# Altium footprint library others.PcbLib: 82 footprints (part 1 of 6)
Each footprint in its own frame and in the unit in brackets; x right, y up, seen from the top. Pads: shape width x height; smd on the part's side, far side on the other; paste and mask are expansions set on the pad; w line width, h text height; cw(c..) or ccw(c..) is an arc to the next point about the centre after c.
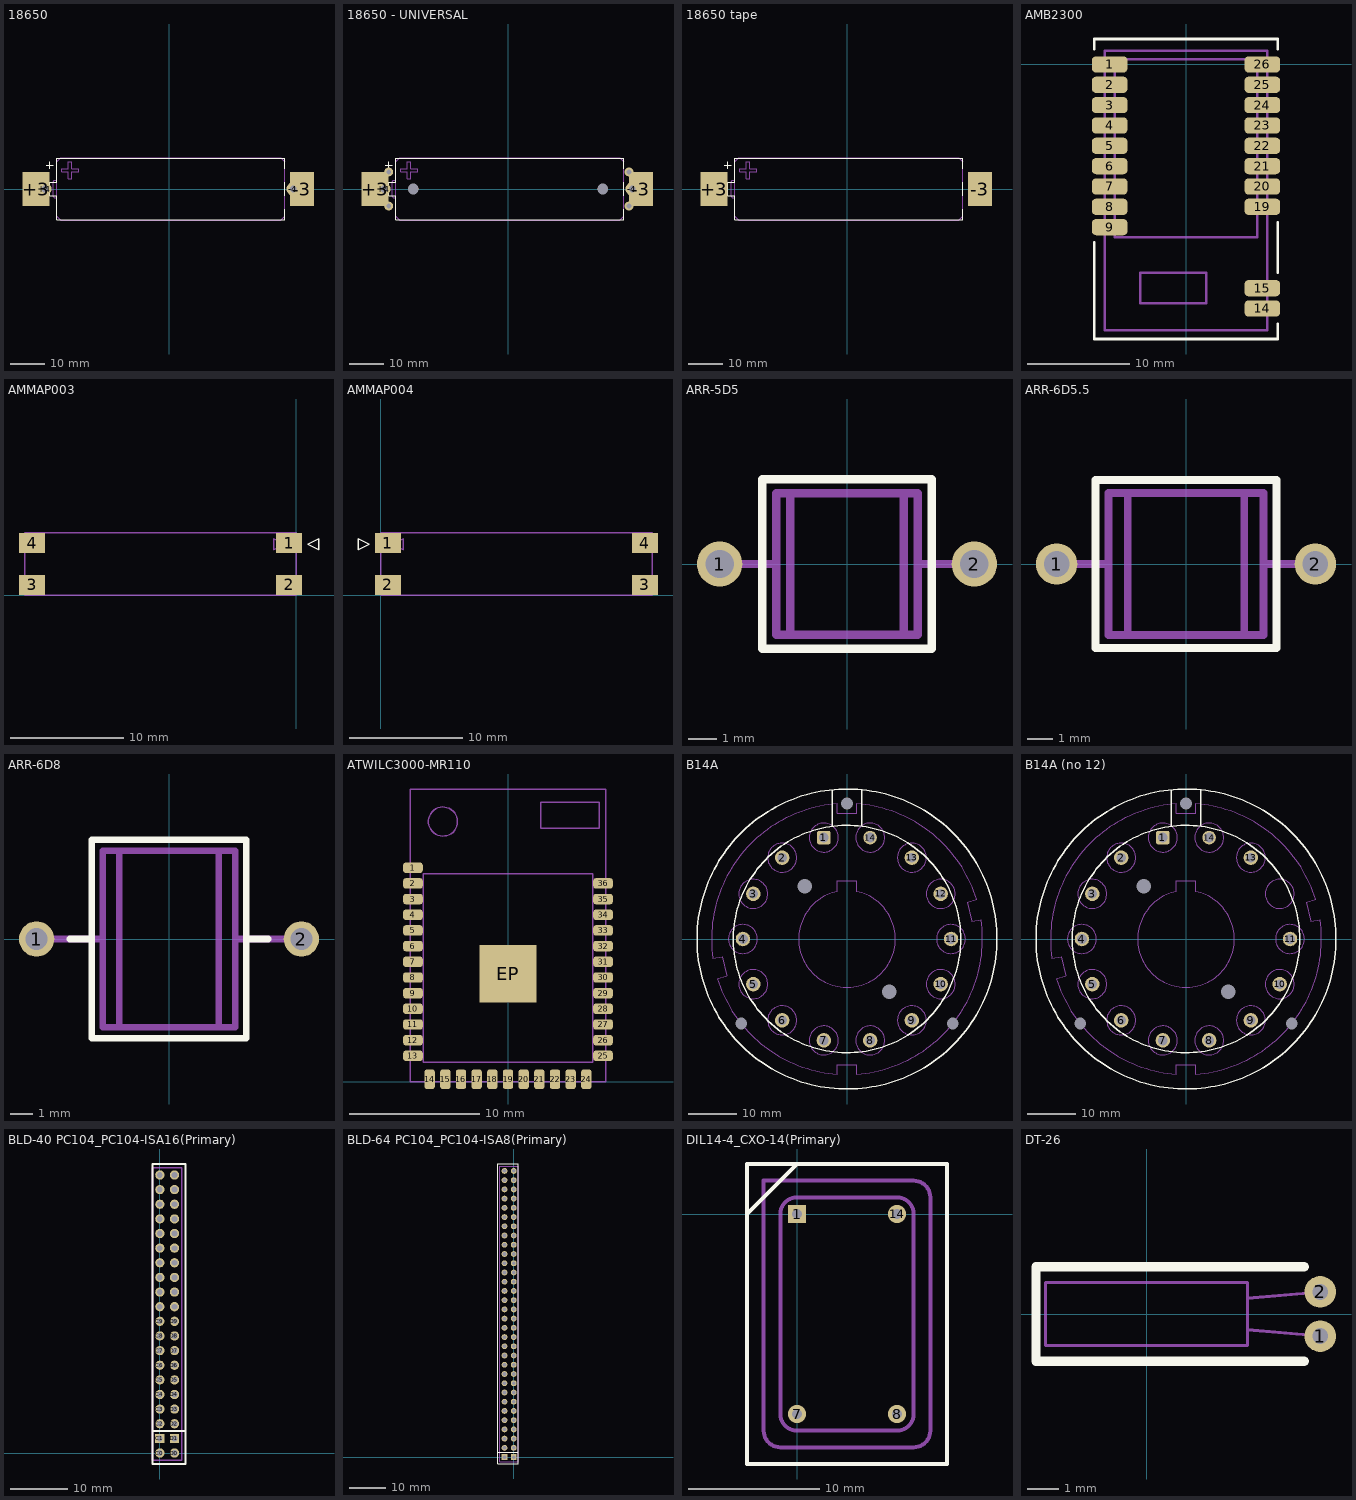
[diagram p0: the footprints below, top view; thin cyan lines are the x and y axes]

## 18650 [mm]
height 18.4
pads (4):
  rect 8x10 smd: +3(-39,0)
  round 4 hole 2: +4(-36.45,0) -4(36.45,0)
  rect 7x10 smd: -3(39,0)
Top Overlay:
  lines w0.3: -36,7 -34,7 ; -35,6 -35,8 ; 34,-6 34,-9 -33,-9 -33,-2 -35,-2 -35,2 -33,2 -33,9 34,9 34,6 ; 34,-2 34,2
Mechanical 1:
  lines w0.3: -33,-2.5 -33.6,-2.5 -34,-2.1 -34,2.1 -33.6,2.5 -33,2.5 ; -33,-8 -31.8,-9.2 32.8,-9.2 34,-8 34,8 32.8,9.2 -31.8,9.2 -33,8 -33,-8 ; -31.5,5 -29.5,5 -29.5,3 -28.5,3 -28.5,5 -26.5,5 -26.5,6 -28.5,6 -28.5,8 -29.5,8 -29.5,6 -31.5,6 -31.5,5
3D body: height 18.4, standoff 0, extent -33,-9.2 33.5,9.2
3D body: height 17.39, standoff 1, extent 33,-8.198 34,8.198
3D body: height 11.7, standoff 6.7, extent -34,-2.499 -33,2.499

## 18650 - UNIVERSAL [mm]
height 18.4
pads (10):
  round 2.6 hole 1.4: +1(-35,5) +2(-35,-5) -1(35.5,5) -2(35.5,-5)
  rect 8x10 smd: +3(-39,0)
  round 4 hole 2: +4(-36.45,0) -4(36.45,0)
  rect 7x10 smd: -3(39,0)
  round 3 hole 3.2 unplated mask+0.3: MNT+(-27.8,0) MNT-(27.8,0)
Top Overlay:
  lines w0.3: -36,7 -34,7 ; -35,6 -35,8 ; 34,-6 34,-9 -33,-9 -33,-2 -35,-2 -35,2 -33,2 -33,9 34,9 34,6 ; 34,-2 34,2
Mechanical 1:
  lines w0.3: -33,-2.5 -33.6,-2.5 -34,-2.1 -34,2.1 -33.6,2.5 -33,2.5 ; -33,-8 -31.8,-9.2 32.8,-9.2 34,-8 34,8 32.8,9.2 -31.8,9.2 -33,8 -33,-8 ; -31.5,5 -29.5,5 -29.5,3 -28.5,3 -28.5,5 -26.5,5 -26.5,6 -28.5,6 -28.5,8 -29.5,8 -29.5,6 -31.5,6 -31.5,5
3D body: height 18.4, standoff 0, extent -33,-9.2 33.5,9.2
3D body: height 17.39, standoff 1, extent 33,-8.198 34,8.198
3D body: height 11.7, standoff 6.7, extent -34,-2.499 -33,2.499

## 18650 tape [mm]
height 18.4
pads (2):
  rect 8x10 smd: +3(-39,0)
  rect 7x10 smd: -3(39,0)
Top Overlay:
  lines w0.3: -36,7 -34,7 ; -35,6 -35,8 ; 34,-6 34,-9 -33,-9 -33,-2 -35,-2 -35,2 -33,2 -33,9 34,9 34,6 ; 34,-2 34,2
Mechanical 1:
  lines w0.3: -33,-2.5 -33.6,-2.5 -34,-2.1 -34,2.1 -33.6,2.5 -33,2.5 ; -33,-8 -31.8,-9.2 32.8,-9.2 34,-8 34,8 32.8,9.2 -31.8,9.2 -33,8 -33,-8 ; -31.5,5 -29.5,5 -29.5,3 -28.5,3 -28.5,5 -26.5,5 -26.5,6 -28.5,6 -28.5,8 -29.5,8 -29.5,6 -31.5,6 -31.5,5
3D body: height 18.4, standoff 0, extent -33,-9.2 33.5,9.2
3D body: height 17.39, standoff 1, extent 33,-8.198 34,8.198
3D body: height 11.7, standoff 6.7, extent -34,-2.499 -33,2.499

## AMB2300 [mm]
pads (19):
  rrect50% 3.5x1.6 smd: 1(-7.5,0) 2(-7.5,-2) 3(-7.5,-4) 4(-7.5,-6) 5(-7.5,-8) 6(-7.5,-10) 7(-7.5,-12) 8(-7.5,-14) 9(-7.5,-16) 14(7.5,-24) 15(7.5,-22) 19(7.5,-14) 20(7.5,-12) 21(7.5,-10) 22(7.5,-8) 23(7.5,-6) 24(7.5,-4) 25(7.5,-2) 26(7.5,0)
Top Overlay:
  lines w0.25: -9,-17.5 -9,-27 9,-27 9,-25.5 ; -9,1.5 -9,2.5 9,2.5 9,1.5 ; 9,-20.5 9,-15.5
Mechanical 1:
  lines w0.25: -8,-16.5 -7.5,-16.5 -7.5,-15.5 -8,-15.5 ; -8,-14.5 -7.5,-14.5 -7.5,-13.5 -8,-13.5 ; -8,-12.5 -7.5,-12.5 -7.5,-11.5 -8,-11.5 ; -8,-10.5 -7.5,-10.5 -7.5,-9.5 -8,-9.5 ; -8,-8.5 -7.5,-8.5 -7.5,-7.5 -8,-7.5 ; -8,-6.5 -7.5,-6.5 -7.5,-5.5 -8,-5.5 ; -8,-4.5 -7.5,-4.5 -7.5,-3.5 -8,-3.5 ; -8,-2.5 -7.5,-2.5 -7.5,-1.5 -8,-1.5 ; -8,-0.5 -7.5,-0.5 -7.5,0.5 -8,0.5 ; 8,-24.5 6,-24.5 6,-23.5 8,-23.5 ; 8,-22.5 6,-22.5 6,-21.5 8,-21.5 ; 8,-14.5 7.5,-14.5 7.5,-13.5 8,-13.5 ; 8,-12.5 7.5,-12.5 7.5,-11.5 8,-11.5 ; 8,-10.5 7.5,-10.5 7.5,-9.5 8,-9.5 ; 8,-8.5 7.5,-8.5 7.5,-7.5 8,-7.5 ; 8,-6.5 7.5,-6.5 7.5,-5.5 8,-5.5 ; 8,-4.5 7.5,-4.5 7.5,-3.5 8,-3.5 ; 8,-2.5 7.5,-2.5 7.5,-1.5 8,-1.5 ; 8,-0.5 7.5,-0.5 7.5,0.5 8,0.5 ; -8,-26.15 8,-26.15 8,1.35 -8,1.35 -8,-26.15 ; -7,-17 7,-17 7,0.5 -7,0.5 -7,-17 ; -4.5,-23.5 2,-23.5 2,-20.5 -4.5,-20.5 -4.5,-23.5

## AMMAP003 [mm] "GSM antenna"
height 4.4
pads (4):
  rect 2.3x1.8 smd: 1(-0.65,4.6) 2(-0.65,0.9) 3(-23.35,0.9) 4(-23.35,4.6)
Top Overlay:
  lines w0.127: 1,4.5 2,5 2,4 1,4.5
Mechanical 1:
  lines w0.1: -24,0 0,0 0,5.5 -24,5.5 -24,0 ; -2,4 -1,4.5 -2,5 -2,4
Mechanical 5:
  lines w0.127: -24,0 -24,5.5 0,5.5 0,0 -24,0 ; -2,4 -2,5 -1,4.5 -2,4
  text ".Designator" at -14.75,2.75 h1.5
Mechanical 6:
  lines w0.127: -24,0 0,0 0,5.5 -24,5.5 -24,0 ; -2,4 -1,4.5 -2,5 -2,4
  text ".Comment" at -14,2 h1.5
3D body: height 4.4, standoff 0.1, extent -24,0 0,5.5

## AMMAP004 [mm] "GSM antenna"
height 4.4
pads (4):
  rect 2.3x1.8 smd: 1(0.65,4.6) 2(0.65,0.9) 3(23.35,0.9) 4(23.35,4.6)
Top Overlay:
  lines w0.127: -2,4 -2,5 -1,4.5 -2,4
Mechanical 1:
  lines w0.1: 0,0 0,5.5 24,5.5 24,0 0,0 ; 1,4.5 2,4 2,5 1,4.5
Mechanical 5:
  lines w0.127: 0,0 24,0 24,5.5 0,5.5 0,0 ; 1,4.5 2,5 2,4 1,4.5
  text ".Designator" at 9.5,2 h1.5
Mechanical 6:
  lines w0.127: 0,0 0,5.5 24,5.5 24,0 0,0 ; 1,4.5 2,4 2,5 1,4.5
  text ".Comment" at 10,3 h1.5
3D body: height 4.4, standoff 0.1, extent 0,0 24,5.5

## ARR-5D5 [mm]
pads (2):
  round 1.6 hole 1: 1(-4.5,0) 2(4.5,0)
Top Overlay:
  lines w0.3: -3,-3 3,-3 3,3 -3,3 -3,-3
Mechanical 1:
  lines w0.3: -4.5,0 -2.5,0 ; -2,-2.5 -2,2.5 ; 2,-2.5 2,2.5 ; 2.5,0 4.5,0 ; -2.5,-2.5 2.5,-2.5 2.5,2.5 -2.5,2.5 -2.5,-2.5
3D body: height 5.2, standoff 0.2, extent -2.5,-2.499 2.5,2.499

## ARR-6D5.5 [mm]
pads (2):
  round 1.6 hole 1: 1(-5,0) 2(5,0)
Top Overlay:
  lines w0.3: -3.5,-3.25 3.5,-3.25 3.5,3.25 -3.5,3.25 -3.5,-3.25
Mechanical 1:
  lines w0.3: -5,0 -3,0 ; -2.25,-2.75 -2.25,2.75 ; 2.25,-2.75 2.25,2.75 ; 3,0 5,0 ; -3,-2.75 3,-2.75 3,2.75 -3,2.75 -3,-2.75
3D body: height 5.75, standoff 0.25, extent -3,-2.75 3,2.748

## ARR-6D8 [mm]
pads (2):
  round 1.6 hole 1: 1(-6,0) 2(6,0)
Top Overlay:
  lines w0.3: -4.5,0 -3.5,0 ; 3.5,0 4.5,0 ; -3.5,-4.5 3.5,-4.5 3.5,4.5 -3.5,4.5 -3.5,-4.5
Mechanical 1:
  lines w0.3: -6,0 -3,0 ; -2.25,-4 -2.25,4 ; 2.25,-4 2.25,4 ; 3,0 6,0 ; -3,-4 3,-4 3,4 -3,4 -3,-4
3D body: height 8.2, standoff 0.2, extent -3,-4 3,3.998

## ATWILC3000-MR110 [mm]
height 2.1
pads (37):
  rrect50% 1.5x0.8 smd: 1(-7.3,16.448) 2(-7.3,15.244) 3(-7.3,14.04) 4(-7.3,12.836) 5(-7.3,11.632) 6(-7.3,10.428) 7(-7.3,9.224) 8(-7.3,8.02) 9(-7.3,6.816) 10(-7.3,5.612) 11(-7.3,4.408) 12(-7.3,3.204) 13(-7.3,2) 25(7.3,2) 26(7.3,3.204) 27(7.3,4.408) 28(7.3,5.612) 29(7.3,6.816) 30(7.3,8.02) 31(7.3,9.224) 32(7.3,10.428) 33(7.3,11.632) 34(7.3,12.836) 35(7.3,14.04) 36(7.3,15.244)
  rrect50% 0.8x1.5 smd: 14(-6.02,0.2) 15(-4.816,0.2) 16(-3.612,0.2) 17(-2.408,0.2) 18(-1.204,0.2) 19(0,0.2) 20(1.204,0.2) 21(2.408,0.2) 22(3.612,0.2) 23(4.816,0.2) 24(6.02,0.2)
  rect 4.4x4.4 smd: EP(0,8.3)
Mechanical 1:
  circle w0.1: c-5,20 r1.118
  lines w0.1: -7.5,0 7.5,0 7.5,22.5 -7.5,22.5 -7.5,0 ; -6.5,1.5 6.5,1.5 6.5,16 -6.5,16 -6.5,1.5 ; 2.5,19.5 7,19.5 7,21.5 2.5,21.5 2.5,19.5
3D body: height 0.8, standoff 0.1, extent -7.5,0 7.5,22.5
3D body: height 2.1, standoff 0.7, extent -6.5,1.5 6.5,16
3D body: height 2.1, standoff 0.7, extent 2.5,19.5 7,21.5
3D body: height 1.8, standoff 0.7, extent -5.999,19 -4,21

## B14A [mm]
height 29
pads (19):
  rrect30% 2.8x2.8 hole 2: 1(-4.784,20.961)
  round 3 hole 2: 2(-13.405,16.809) 3(-19.371,9.329) 4(-21.5,0) 5(-19.371,-9.329) 6(-13.405,-16.809) 7(-4.784,-20.961) 8(4.784,-20.961) 9(13.405,-16.809) 10(19.371,-9.329) 11(21.5,0) 12(19.371,9.329) 13(13.405,16.809)
  round 2.8 hole 2: 14(4.784,20.961)
  round 0 hole 2.4 unplated mask+2.5: S1(0,28) S6(-21.892,-17.457) S10(21.892,-17.457)
  round 0 hole 3 unplated mask+3: S2(-8.729,10.946) S9(8.729,-10.946)
Top Overlay:
  circle w0.3: c0,0 r23.5
  circle w0.3: c0,0 r31
  lines w0.3: -3,23.4 -3,30.8 ; 3,23.4 3,30.7
Mechanical 1:
  circle w0.1: c-19.371,-9.329 r3
  circle w0.1: c-13.405,-16.809 r3
  circle w0.1: c-4.784,-20.961 r3
  circle w0.1: c4.784,-20.961 r3
  circle w0.1: c13.405,-16.809 r3
  circle w0.1: c19.371,-9.329 r3
  circle w0.1: c21.5,0 r3
  circle w0.1: c19.371,9.329 r3
  circle w0.1: c13.405,16.809 r3
  circle w0.1: c4.784,20.961 r3
  circle w0.1: c-4.784,20.961 r3
  circle w0.1: c-13.405,16.809 r3
  circle w0.1: c-19.371,9.329 r3
  circle w0.1: c-21.5,0 r3
  lines w0.1: -26.775,-8.192 -24.9,-7.6 -25.8,-3.7 -27.713,-4.002 cw(c0,0) -2,27.928 -2,26 2,26 2,27.929 cw(c0,0) 26.775,8.192 ; -26.775,-8.192 ccw(c0,0) -1.995,-27.929 ; -2,-27.929 -2,-26 2,-26 2,-27.929 ccw(c0,0) 27.713,4.002 25.8,3.7 24.9,7.6 26.775,8.192 ; -2,9.806 -2,12 2,12 2,9.806 ; -1.998,9.798 ccw(c0,0) 1.998,9.798
3D body: height 14, standoff -2.5, extent -21.7,-0.7 -21.3,0.7
3D body: height 14, standoff -2.5, extent 21.3,-0.7 21.7,0.7
3D body: height 14, standoff -2.5, extent 18.887,8.611 19.855,10.046
3D body: height 14, standoff -2.5, extent -19.855,-10.046 -18.887,-8.611
3D body: height 14, standoff -2.5, extent 18.887,-10.046 19.855,-8.611
3D body: height 14, standoff -2.5, extent -19.855,8.611 -18.887,10.046
3D body: height 14, standoff -2.5, extent -5.511,20.61 -4.057,21.312
3D body: height 14, standoff -2.5, extent 4.057,-21.312 5.511,-20.61
3D body: height 14, standoff -2.5, extent 12.733,-17.402 14.077,-16.217
3D body: height 14, standoff -2.5, extent -14.077,16.217 -12.733,17.402
3D body: height 14, standoff -2.5, extent -5.511,-21.312 -4.057,-20.61
3D body: height 14, standoff -2.5, extent 4.057,20.61 5.511,21.312
3D body: height 14, standoff -2.5, extent 12.733,16.217 14.077,17.402
3D body: height 14, standoff -2.5, extent -14.077,-17.402 -12.733,-16.217
3D body: height 14, standoff 0.1, extent -26.512,-26.512 26.512,26.512
3D body: height 28.5, standoff 13.5, extent -28.002,-28.001 28.012,28.001

## B14A (no 12) [mm]
height 29
pads (18):
  rrect30% 2.8x2.8 hole 2: 1(-4.784,20.961)
  round 3 hole 2: 2(-13.405,16.809) 3(-19.371,9.329) 4(-21.5,0) 5(-19.371,-9.329) 6(-13.405,-16.809) 7(-4.784,-20.961) 8(4.784,-20.961) 9(13.405,-16.809) 10(19.371,-9.329) 11(21.5,0) 13(13.405,16.809)
  round 2.8 hole 2: 14(4.784,20.961)
  round 0 hole 2.4 unplated mask+2.5: S1(0,28) S6(-21.892,-17.457) S10(21.892,-17.457)
  round 0 hole 3 unplated mask+3: S2(-8.729,10.946) S9(8.729,-10.946)
Top Overlay:
  circle w0.3: c0,0 r23.5
  circle w0.3: c0,0 r31
  lines w0.3: -3,23.4 -3,30.8 ; 3,23.4 3,30.7
Mechanical 1:
  circle w0.1: c-19.371,-9.329 r3
  circle w0.1: c-13.405,-16.809 r3
  circle w0.1: c-4.784,-20.961 r3
  circle w0.1: c4.784,-20.961 r3
  circle w0.1: c13.405,-16.809 r3
  circle w0.1: c19.371,-9.329 r3
  circle w0.1: c21.5,0 r3
  circle w0.1: c19.371,9.329 r3
  circle w0.1: c13.405,16.809 r3
  circle w0.1: c4.784,20.961 r3
  circle w0.1: c-4.784,20.961 r3
  circle w0.1: c-13.405,16.809 r3
  circle w0.1: c-19.371,9.329 r3
  circle w0.1: c-21.5,0 r3
  lines w0.1: -26.775,-8.192 -24.9,-7.6 -25.8,-3.7 -27.713,-4.002 cw(c0,0) -2,27.928 -2,26 2,26 2,27.929 cw(c0,0) 26.775,8.192 ; -26.775,-8.192 ccw(c0,0) -1.995,-27.929 ; -2,-27.929 -2,-26 2,-26 2,-27.929 ccw(c0,0) 27.713,4.002 25.8,3.7 24.9,7.6 26.775,8.192 ; -2,9.806 -2,12 2,12 2,9.806 ; -1.998,9.798 ccw(c0,0) 1.998,9.798
3D body: height 14, standoff -2.5, extent -21.7,-0.7 -21.3,0.7
3D body: height 14, standoff -2.5, extent 21.3,-0.7 21.7,0.7
3D body: height 14, standoff -2.5, extent -19.855,-10.046 -18.887,-8.611
3D body: height 14, standoff -2.5, extent 18.887,-10.046 19.855,-8.611
3D body: height 14, standoff -2.5, extent -19.855,8.611 -18.887,10.046
3D body: height 14, standoff -2.5, extent -5.511,20.61 -4.057,21.312
3D body: height 14, standoff -2.5, extent 4.057,-21.312 5.511,-20.61
3D body: height 14, standoff -2.5, extent 12.733,-17.402 14.077,-16.217
3D body: height 14, standoff -2.5, extent -14.077,16.217 -12.733,17.402
3D body: height 14, standoff -2.5, extent -5.511,-21.312 -4.057,-20.61
3D body: height 14, standoff -2.5, extent 4.057,20.61 5.511,21.312
3D body: height 14, standoff -2.5, extent 12.733,16.217 14.077,17.402
3D body: height 14, standoff -2.5, extent -14.077,-17.402 -12.733,-16.217
3D body: height 14, standoff 0.1, extent -26.512,-26.512 26.512,26.512
3D body: height 28.5, standoff 13.5, extent -28.002,-28.001 28.012,28.001

## BLD-40 PC104_PC104-ISA16(Primary) [mm]
pads (40):
  round 1.6 hole 1: C0(0,0) C2(0,5.08) C3(0,7.62) C4(0,10.16) C5(0,12.7) C6(0,15.24) C7(0,17.78) C8(0,20.32) C9(0,22.86) C10(0,25.4) C11(0,27.94) C12(0,30.48) C13(0,33.02) C14(0,35.56) C15(0,38.1) C16(0,40.64) C17(0,43.18) C18(0,45.72) C19(0,48.26) D0(2.54,0) D2(2.54,5.08) D3(2.54,7.62) D4(2.54,10.16) D5(2.54,12.7) D6(2.54,15.24) D7(2.54,17.78) D8(2.54,20.32) D9(2.54,22.86) D10(2.54,25.4) D11(2.54,27.94) D12(2.54,30.48) D13(2.54,33.02) D14(2.54,35.56) D15(2.54,38.1) D16(2.54,40.64) D17(2.54,43.18) D18(2.54,45.72) D19(2.54,48.26)
  rect 1.6x1.6 hole 1: C1(0,2.54) D1(2.54,2.54)
Top Overlay:
  lines w0.3: -1.27,3.81 4.445,3.81 ; -1.27,-1.905 -1.27,50.165 4.445,50.165 4.445,-1.905 -1.27,-1.905
Mechanical 1:
  drawing of 164 lines, arcs and shapes, not listed

## BLD-64 PC104_PC104-ISA8(Primary) [mm]
pads (64):
  rect 1.6x1.6 hole 1: A1(0,0) B1(-2.54,0)
  round 1.6 hole 1: A2(0,2.54) A3(0,5.08) A4(0,7.62) A5(0,10.16) A6(0,12.7) A7(0,15.24) A8(0,17.78) A9(0,20.32) A10(0,22.86) A11(0,25.4) A12(0,27.94) A13(0,30.48) A14(0,33.02) A15(0,35.56) A16(0,38.1) A17(0,40.64) A18(0,43.18) A19(0,45.72) A20(0,48.26) A21(0,50.8) A22(0,53.34) A23(0,55.88) A24(0,58.42) A25(0,60.96) A26(0,63.5) A27(0,66.04) A28(0,68.58) A29(0,71.12) A30(0,73.66) A31(0,76.2) A32(0,78.74) B2(-2.54,2.54) B3(-2.54,5.08) B4(-2.54,7.62) B5(-2.54,10.16) B6(-2.54,12.7) B7(-2.54,15.24) B8(-2.54,17.78) B9(-2.54,20.32) B10(-2.54,22.86) B11(-2.54,25.4) B12(-2.54,27.94) B13(-2.54,30.48) B14(-2.54,33.02) B15(-2.54,35.56) B16(-2.54,38.1) B17(-2.54,40.64) B18(-2.54,43.18) B19(-2.54,45.72) B20(-2.54,48.26) B21(-2.54,50.8) B22(-2.54,53.34) B23(-2.54,55.88) B24(-2.54,58.42) B25(-2.54,60.96) B26(-2.54,63.5) B27(-2.54,66.04) B28(-2.54,68.58) B29(-2.54,71.12) B30(-2.54,73.66) B31(-2.54,76.2) B32(-2.54,78.74)
Top Overlay:
  lines w0.3: -4.445,1.27 1.27,1.27 ; -4.445,-1.905 1.27,-1.905 1.27,80.645 -4.445,80.645 -4.445,-1.905
Mechanical 1:
  drawing of 260 lines, arcs and shapes, not listed

## DIL14-4_CXO-14(Primary) [mm]
pads (4):
  rect 1.4x1.4 hole 0.8: 1(0,0)
  round 1.4 hole 0.8: 7(0,-15.24) 8(7.62,-15.24) 14(7.62,0)
Top Overlay:
  lines w0.3: -3.81,0 0,3.81 ; -3.81,-19.05 11.43,-19.05 11.43,3.81 -3.81,3.81 -3.81,-19.05
Mechanical 1:
  lines w0.3: -2.54,-16.51 ccw(c-1.27,-16.51) -1.27,-17.78 8.89,-17.78 ccw(c8.89,-16.51) 10.16,-16.51 10.16,1.27 ccw(c8.89,1.27) 8.89,2.54 -2.54,2.54 -2.54,-16.51 ; -1.27,-15.24 ccw(c0,-15.24) 0,-16.51 7.62,-16.51 ccw(c7.62,-15.24) 8.89,-15.24 8.89,0 ccw(c7.62,0) 7.62,1.27 0,1.27 ccw(c0,0) -1.27,0 -1.27,-15.24

## DT-26 [mm]
height 2
pads (2):
  round 1 hole 0.5: 1(5.5,-0.7) 2(5.5,0.7)
Top Overlay:
  lines w0.3: 5,-1.5 -3.5,-1.5 -3.5,1.5 5,1.5
Mechanical 1:
  lines w0.1: 3.2,-0.5 5.5,-0.7 ; 3.2,0.5 5.5,0.7 ; -3.2,-1 3.2,-1 3.2,1 -3.2,1 -3.2,-1
3D body: height 2, standoff 0, extent -3.2,-0.997 3.2,1